# Altium footprint library FootPrnt_fact.PcbLib: 87 footprints (part 1 of 6)
Each footprint in its own frame and in the unit in brackets; x right, y up, seen from the top. Pads: shape width x height; smd on the part's side, far side on the other; paste and mask are expansions set on the pad; w line width, h text height; cw(c..) or ccw(c..) is an arc to the next point about the centre after c.
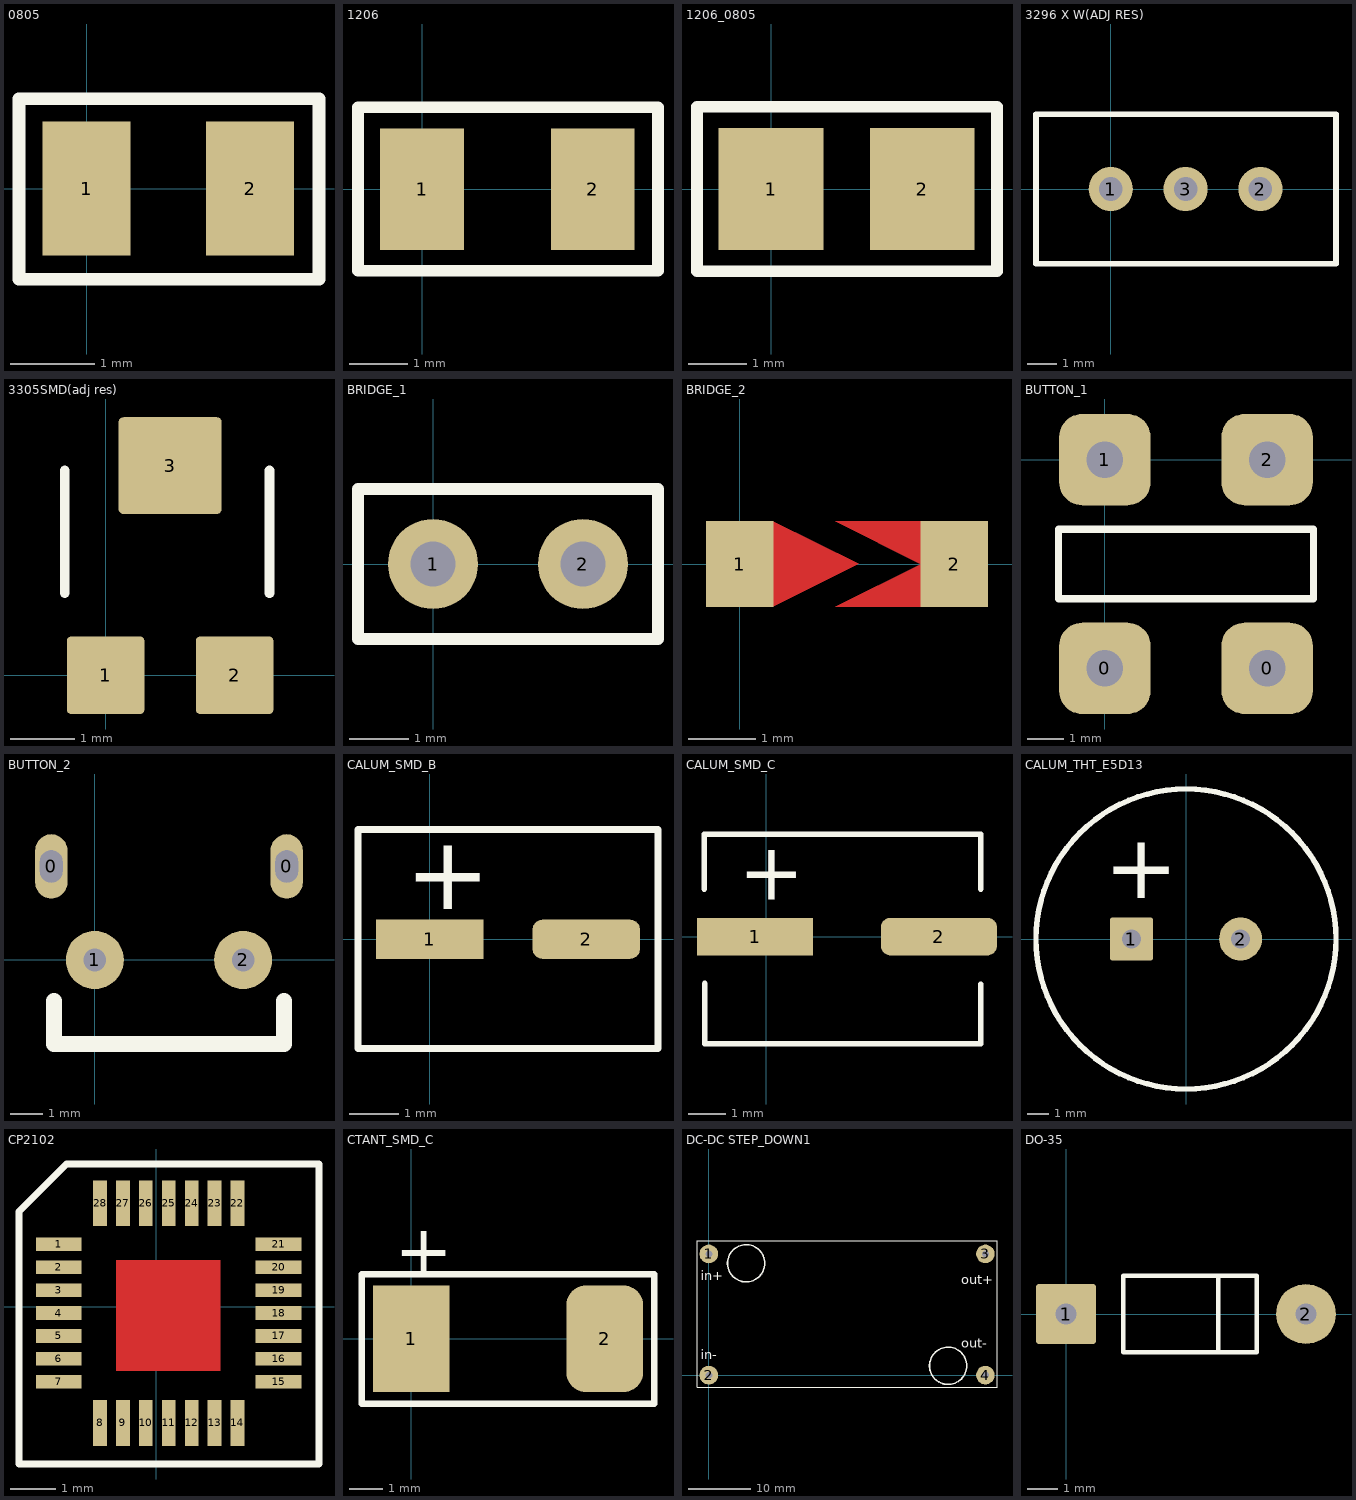
[diagram p0: the footprints below, top view; thin cyan lines are the x and y axes]

## 0805 [mm]
pads (2):
  rect 1.05x1.6 smd: 1(0,0) 2(1.95,0)
Top Overlay:
  lines w0.15: -0.807,-1.083 -0.807,1.073 2.772,1.073 2.772,-1.083 -0.807,-1.083

## 1206 [mm]
pads (2):
  rect 1.45x2.1 smd: 1(0,0) 2(2.95,0)
Top Overlay:
  lines w0.2: -1.107,-1.414 4.077,-1.414 4.077,1.416 -1.107,1.416 -1.107,-1.414

## 1206_0805 [mm]
pads (2):
  rect 1.8x2.1 smd: 1(0,0) 2(2.6,0)
Top Overlay:
  lines w0.2: -1.273,-1.414 3.886,-1.414 3.886,1.416 -1.273,1.416 -1.273,-1.414

## 3296 X W(ADJ RES) [mm]
pads (3):
  round 1.5 hole 0.8: 1(0,0) 2(5.08,0) 3(2.54,0)
Top Overlay:
  lines w0.2: -2.54,-2.54 7.647,-2.54 7.647,2.54 -2.54,2.54 -2.54,-2.54

## 3305SMD(adj res) [mm]
pads (3):
  rrect10% 1.2x1.2 smd: 1(0,0) 2(2,0)
  rrect10% 1.6x1.5 smd: 3(1,3.25)
Top Overlay:
  lines w0.15: -0.635,1.27 -0.635,3.175 ; 2.54,1.27 2.54,3.175

## BRIDGE_1 [mil]
pads (2):
  round 60 hole 30: 1(0,0) 2(100,0)
Top Overlay:
  lines w7.87: -50,-50 150,-50 150,50 -50,50 -50,-50

## BRIDGE_2 [mm]
pads (2):
  rect 1x1.27 smd: 1(0,0) 2(3.175,0)
Top Layer:
  region: 1.41,-0.635 2.68,-0.635 2.68,0.635 1.41,0.635 2.68,0
  region: 0.491,-0.634 1.761,0.001 0.491,0.636

## BUTTON_1 [mm]
pads (4):
  rrect50% 2.5x2.5 hole 1: 0(0,-5.715) 0(4.445,-5.715) 1(0,0) 2(4.445,0)
Top Overlay:
  lines w0.2: -1.27,-3.81 -1.27,-1.905 5.715,-1.905 5.715,-3.81 -1.27,-3.81

## BUTTON_2 [mm]
pads (4):
  oval 1x2 hole 0.7 slot 1 at 90 deg: 0(-1.35,2.9) 0(5.95,2.9)
  round 1.8 hole 0.7: 1(0,0) 2(4.6,0)
Top Overlay:
  lines w0.5: -1.27,-1.27 -1.27,-2.6 5.87,-2.6 5.87,-1.27

## CALUM_SMD_B [mm]
pads (2):
  rect 2.2x0.8 smd: 1(0,0)
  rrect50% 2.2x0.8 smd: 2(3.2,0)
Top Overlay:
  lines w0.15: -1.468,-2.235 4.667,-2.235 4.667,2.244 -1.468,2.244 -1.468,-2.235
  text "+" at -0.503,0.614 h1.52

## CALUM_SMD_C [mm]
pads (2):
  rect 3.1x1 smd: 1(-0.3,0)
  rrect50% 3.1x1 smd: 2(4.6,0)
Top Overlay:
  lines w0.15: -1.653,1.27 -1.653,2.731 5.715,2.731 5.715,1.27 ; -1.645,-1.252 -1.645,-2.859 5.715,-2.859 5.715,-1.27
  text "+" at -0.734,0.985 h1.52

## CALUM_THT_E5D13 [mm] "Space between pins is 5mm"
pads (2):
  rrect10% 2x2 hole 0.9: 1(-2.54,0)
  round 2 hole 0.9: 2(2.54,0)
Top Overlay:
  circle w0.254: c0,0 r6.985
  text "+" at -3.81,1.905 h3

## CP2102 [mm]
pads (28):
  rect 1x0.3 smd: 1(-2.13,1.36) 2(-2.13,0.86) 3(-2.13,0.36) 4(-2.13,-0.14) 5(-2.13,-0.64) 6(-2.13,-1.14) 7(-2.13,-1.64) 15(2.67,-1.64) 16(2.67,-1.14) 17(2.67,-0.64) 18(2.67,-0.14) 19(2.67,0.36) 20(2.67,0.86) 21(2.67,1.36)
  rect 0.3x1 smd: 8(-1.23,-2.54) 9(-0.73,-2.54) 10(-0.23,-2.54) 11(0.27,-2.54) 12(0.77,-2.54) 13(1.27,-2.54) 14(1.77,-2.54) 22(1.77,2.26) 23(1.27,2.26) 24(0.77,2.26) 25(0.27,2.26) 26(-0.23,2.26) 27(-0.73,2.26) 28(-1.23,2.26)
Top Layer:
  rectangle: -0.877,-1.408 1.406,1.016
Top Overlay:
  lines w0.15: -3.001,-3.438 3.552,-3.438 3.552,3.115 -1.965,3.115 -3.001,2.079 -3.001,-3.438

## CTANT_SMD_C [mm]
pads (2):
  rect 2.3x3.2 smd: 1(0,0)
  rrect50% 2.3x3.2 smd: 2(5.8,0)
Top Overlay:
  lines w0.2: -1.486,-1.953 -1.486,1.93 7.288,1.93 7.288,-1.953 -1.486,-1.953
  text "+" at -0.504,1.91 h1.52

## DC-DC STEP_DOWN1 [mm]
pads (4):
  round 3 hole 1.1: 1(0,19.5) 2(0,0) 3(44.488,19.507) 4(44.488,0.007)
Top Overlay:
  circle w0.254: c38.488,1.507 r3
  circle w0.254: c6,18 r3
  lines w0.15: -1.905,-1.905 -1.905,21.59 46.355,21.59 46.355,-1.905 -1.905,-1.905
  text "in+" at -1.27,15.24 h1.52
  text "in-" at -1.27,2.54 h1.52
  text "out+" at 40.64,14.605 h1.52
  text "out-" at 40.64,4.445 h1.52

## DO-35 [mm]
pads (2):
  rrect10% 2x2 hole 0.7: 1(0,0)
  round 2 hole 0.7: 2(8,0)
Top Overlay:
  lines w0.15: 5.08,-1.27 5.08,1.27 ; 1.905,-1.27 6.35,-1.27 6.35,1.27 1.905,1.27 1.905,-1.27